# Altium schematic symbol library SparkFun-Electromechanical.SCHLIB: 155 symbols
Pins are listed as number, name and electrical type; pins without a type are passive.

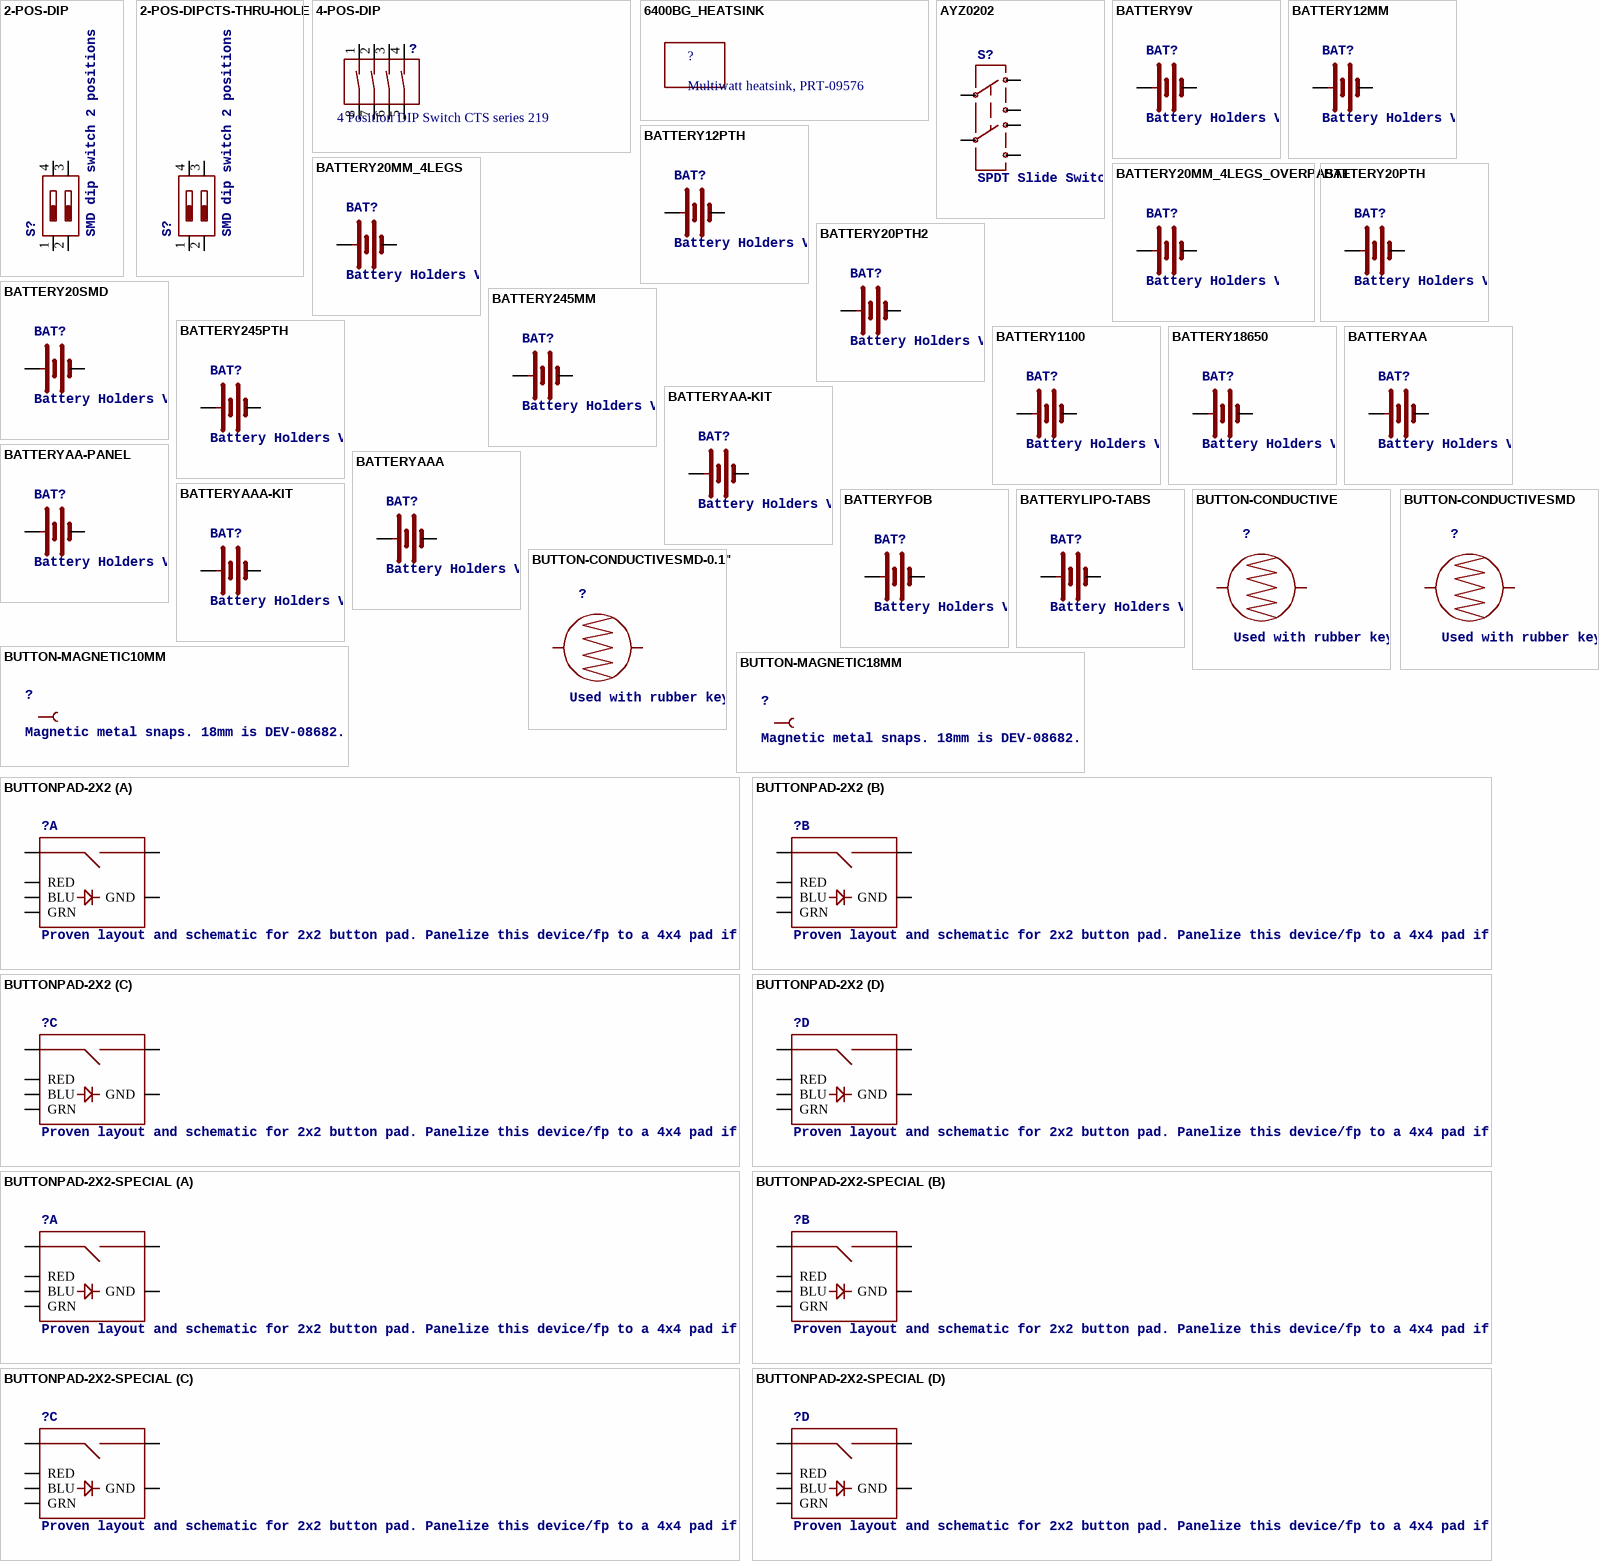
[diagram p0: symbols 2-POS-DIP to BUTTONPAD-2X2-SPECIAL]

## 2-POS-DIP
designator S?, comment SMD dip switch 2 positions
PROD_ID: SWCH-12372
footprint CHS-02A
pins: 1 P$1, 2 P$2, 3 P$3, 4 P$4

## 2-POS-DIPCTS-THRU-HOLE
designator S?, comment SMD dip switch 2 positions
PROD_ID: SWCH-12532
footprint 209-2LPST
pins: 1 P$1, 2 P$2, 3 P$3, 4 P$4

## 4-POS-DIP
designator ?, comment 4 Position DIP Switch CTS series 219
PROD_ID: SWCH-12418
footprint 4-POS-DIP-SMD
pins: 1 1A, 2 2A, 3 3A, 4 4A, 5 4B, 6 3B, 7 2B, 8 1B

## 6400BG_HEATSINK
designator ?, comment Multiwatt heatsink, PRT-09576
footprint 6400BG_HEATSINK

## AYZ0202
designator S?, comment SPDT Slide SwitchSimple SMD single-pull double-throw slide switch. Good for  less than 350mA power switch, switching UARTs between devices, etc. Spark Fun Electronics SKU : COM-00597
PROD_ID: SWCH-08179
footprint AYZ0202
pins: 1 3, 2, 3 1, 4 6, 5, 6 4

## BATTERY9V
designator BAT?, comment Battery Holders Various common sizes : AA, AAA, 18650 (PRT-12895), 20mm coin cell and 12mm coin cell. 20MM_4LEGS, BATT-10373
footprint BATTCON_9V
pins: + (power), - (power)

## BATTERY12MM
designator BAT?, comment Battery Holders Various common sizes : AA, AAA, 18650 (PRT-12895), 20mm coin cell and 12mm coin cell. 20MM_4LEGS, BATT-10373
PROD_ID: BATT-08044
footprint BATTCON_12MM
pins: GND - (power), PWR@1 + (power)

## BATTERY12PTH
designator BAT?, comment Battery Holders Various common sizes : AA, AAA, 18650 (PRT-12895), 20mm coin cell and 12mm coin cell. 20MM_4LEGS, BATT-10373
PROD_ID: BATT-08315
footprint BATTCON_12MM_PTH
pins: GND - (power), VCC@1 + (power)

## BATTERY20MM_4LEGS
designator BAT?, comment Battery Holders Various common sizes : AA, AAA, 18650 (PRT-12895), 20mm coin cell and 12mm coin cell. 20MM_4LEGS, BATT-10373
PROD_ID: BATT-10373
footprint BATTCON_20MM_4LEGS
pins: NEGATIVE - (power), POSITIVE@1 POSITIVE@2 POSITIVE@3 POSITIVE@4 + (power)

## BATTERY20MM_4LEGS_OVERPASTE
designator BAT?, comment Battery Holders Various common sizes : AA, AAA, 18650 (PRT-12895), 20mm coin cell and 12mm coin cell. 20MM_4LEGS, BATT-10373
footprint BATTCON_20MM_4LEGS_OVERPASTE
pins: 1 + (power), 2 - (power)

## BATTERY20PTH
designator BAT?, comment Battery Holders Various common sizes : AA, AAA, 18650 (PRT-12895), 20mm coin cell and 12mm coin cell. 20MM_4LEGS, BATT-10373
footprint BATTCOM_20MM_PTH
pins: 1 + (power), 2 - (power)

## BATTERY20PTH2
designator BAT?, comment Battery Holders Various common sizes : AA, AAA, 18650 (PRT-12895), 20mm coin cell and 12mm coin cell. 20MM_4LEGS, BATT-10373
footprint BATTERY
pins: + (power), - (power)

## BATTERY20SMD
designator BAT?, comment Battery Holders Various common sizes : AA, AAA, 18650 (PRT-12895), 20mm coin cell and 12mm coin cell. 20MM_4LEGS, BATT-10373
footprint BATTCON_20MM
pins: 1 + (power), 2 - (power)

## BATTERY245MM
designator BAT?, comment Battery Holders Various common sizes : AA, AAA, 18650 (PRT-12895), 20mm coin cell and 12mm coin cell. 20MM_4LEGS, BATT-10373
footprint BATTCON_245MM
pins: 1 + (power), 2 - (power)

## BATTERY245PTH
designator BAT?, comment Battery Holders Various common sizes : AA, AAA, 18650 (PRT-12895), 20mm coin cell and 12mm coin cell. 20MM_4LEGS, BATT-10373
footprint BATTCON_245MM_PTH
pins: 2 - (power), 3 + (power)

## BATTERY1100
designator BAT?, comment Battery Holders Various common sizes : AA, AAA, 18650 (PRT-12895), 20mm coin cell and 12mm coin cell. 20MM_4LEGS, BATT-10373
footprint LIPO-1100MAH
pins: + (power), - (power)

## BATTERY18650
designator BAT?, comment Battery Holders Various common sizes : AA, AAA, 18650 (PRT-12895), 20mm coin cell and 12mm coin cell. 20MM_4LEGS, BATT-10373
footprint BATTERY_18650-HOLDER
pins: GND@1 - (power), PWR@1 + (power)

## BATTERYAA
designator BAT?, comment Battery Holders Various common sizes : AA, AAA, 18650 (PRT-12895), 20mm coin cell and 12mm coin cell. 20MM_4LEGS, BATT-10373
footprint BATTERY-AA
pins: GND@1 - (power), PWR@1 + (power)

## BATTERYAA-KIT
designator BAT?, comment Battery Holders Various common sizes : AA, AAA, 18650 (PRT-12895), 20mm coin cell and 12mm coin cell. 20MM_4LEGS, BATT-10373
PROD_ID: BATT-08316
footprint BATTERY-AA-KIT
pins: GND@1 - (power), PWR@1 + (power)

## BATTERYAA-PANEL
designator BAT?, comment Battery Holders Various common sizes : AA, AAA, 18650 (PRT-12895), 20mm coin cell and 12mm coin cell. 20MM_4LEGS, BATT-10373
footprint BATTERY-AA-PANEL
pins: + (power), - (power)

## BATTERYAAA
designator BAT?, comment Battery Holders Various common sizes : AA, AAA, 18650 (PRT-12895), 20mm coin cell and 12mm coin cell. 20MM_4LEGS, BATT-10373
PROD_ID: BATT-08571
footprint BATTERY-AAA
pins: GND@1 - (power), PWR@1 + (power)

## BATTERYAAA-KIT
designator BAT?, comment Battery Holders Various common sizes : AA, AAA, 18650 (PRT-12895), 20mm coin cell and 12mm coin cell. 20MM_4LEGS, BATT-10373
PROD_ID: BATT-08571
footprint BATTERY-AAA-KIT
pins: GND@1 - (power), PWR@1 + (power)

## BATTERYFOB
designator BAT?, comment Battery Holders Various common sizes : AA, AAA, 18650 (PRT-12895), 20mm coin cell and 12mm coin cell. 20MM_4LEGS, BATT-10373
footprint BATTERY_20MM_PTH_COMPACT
pins: 1 + (power), 2 - (power)

## BATTERYLIPO-TABS
designator BAT?, comment Battery Holders Various common sizes : AA, AAA, 18650 (PRT-12895), 20mm coin cell and 12mm coin cell. 20MM_4LEGS, BATT-10373
footprint LIPO-110-TABS
pins: + (power), - (power)

## BUTTON-CONDUCTIVE
designator ?, comment Used with rubber key pads. This one was designed and proven to work with the PolyCase Key FOB enclosures.
footprint BUTTON-CONDUCTIVE-MINI
pins: 1, 2

## BUTTON-CONDUCTIVESMD
designator ?, comment Used with rubber key pads. This one was designed and proven to work with the PolyCase Key FOB enclosures.
footprint BUTTON-CONDUCTIVE
pins: 1, 2

## BUTTON-CONDUCTIVESMD-0.1"
designator ?, comment Used with rubber key pads. This one was designed and proven to work with the PolyCase Key FOB enclosures.
footprint BUTTON-CONDUCTIVE-0.1
pins: 1, 2

## BUTTON-MAGNETIC10MM
designator ?, comment Magnetic metal snaps. 18mm is DEV-08682.
footprint BUTTON-10MM
pins: 1

## BUTTON-MAGNETIC18MM
designator ?, comment Magnetic metal snaps. 18mm is DEV-08682.
footprint BUTTON-18MM
pins: 1

## BUTTONPAD-2X2
designator ?, comment Proven layout and schematic for 2x2 button pad. Panelize this device/fp to a 4x4 pad if needed. Spark Fun Electronics SKU : COM-07835. Compatible common cathode tri-color LED SKU : COM-00105
footprint BUTTONPAD-2X2
part A pins: BLU1 BLU, GND1 GND, GRN1 GRN, RED1 RED, SIG1, SIG2
part B pins: BLU2 BLU, GND2 GND, GRN2 GRN, RED2 RED, SIG3 SIG1, SIG4 SIG2
part C pins: BLU3 BLU, GND3 GND, GRN3 GRN, RED3 RED, SIG5 SIG1, SIG6 SIG2
part D pins: BLU4 BLU, GND4 GND, GRN4 GRN, RED4 RED, SIG7 SIG1, SIG8 SIG2

## BUTTONPAD-2X2-SPECIAL
designator ?, comment Proven layout and schematic for 2x2 button pad. Panelize this device/fp to a 4x4 pad if needed. Spark Fun Electronics SKU : COM-07835. Compatible common cathode tri-color LED SKU : COM-00105
footprint BUTTONPAD-2X2-SPECIAL
part A pins: BLU1 BLU, GND1 GND, GRN1 GRN, RED1 RED, SIG1, SIG2
part B pins: BLU2 BLU, GND2 GND, GRN2 GRN, RED2 RED, SIG3 SIG1, SIG4 SIG2
part C pins: BLU3 BLU, GND3 GND, GRN3 GRN, RED3 RED, SIG5 SIG1, SIG6 SIG2
part D pins: BLU4 BLU, GND4 GND, GRN4 GRN, RED4 RED, SIG7 SIG1, SIG8 SIG2

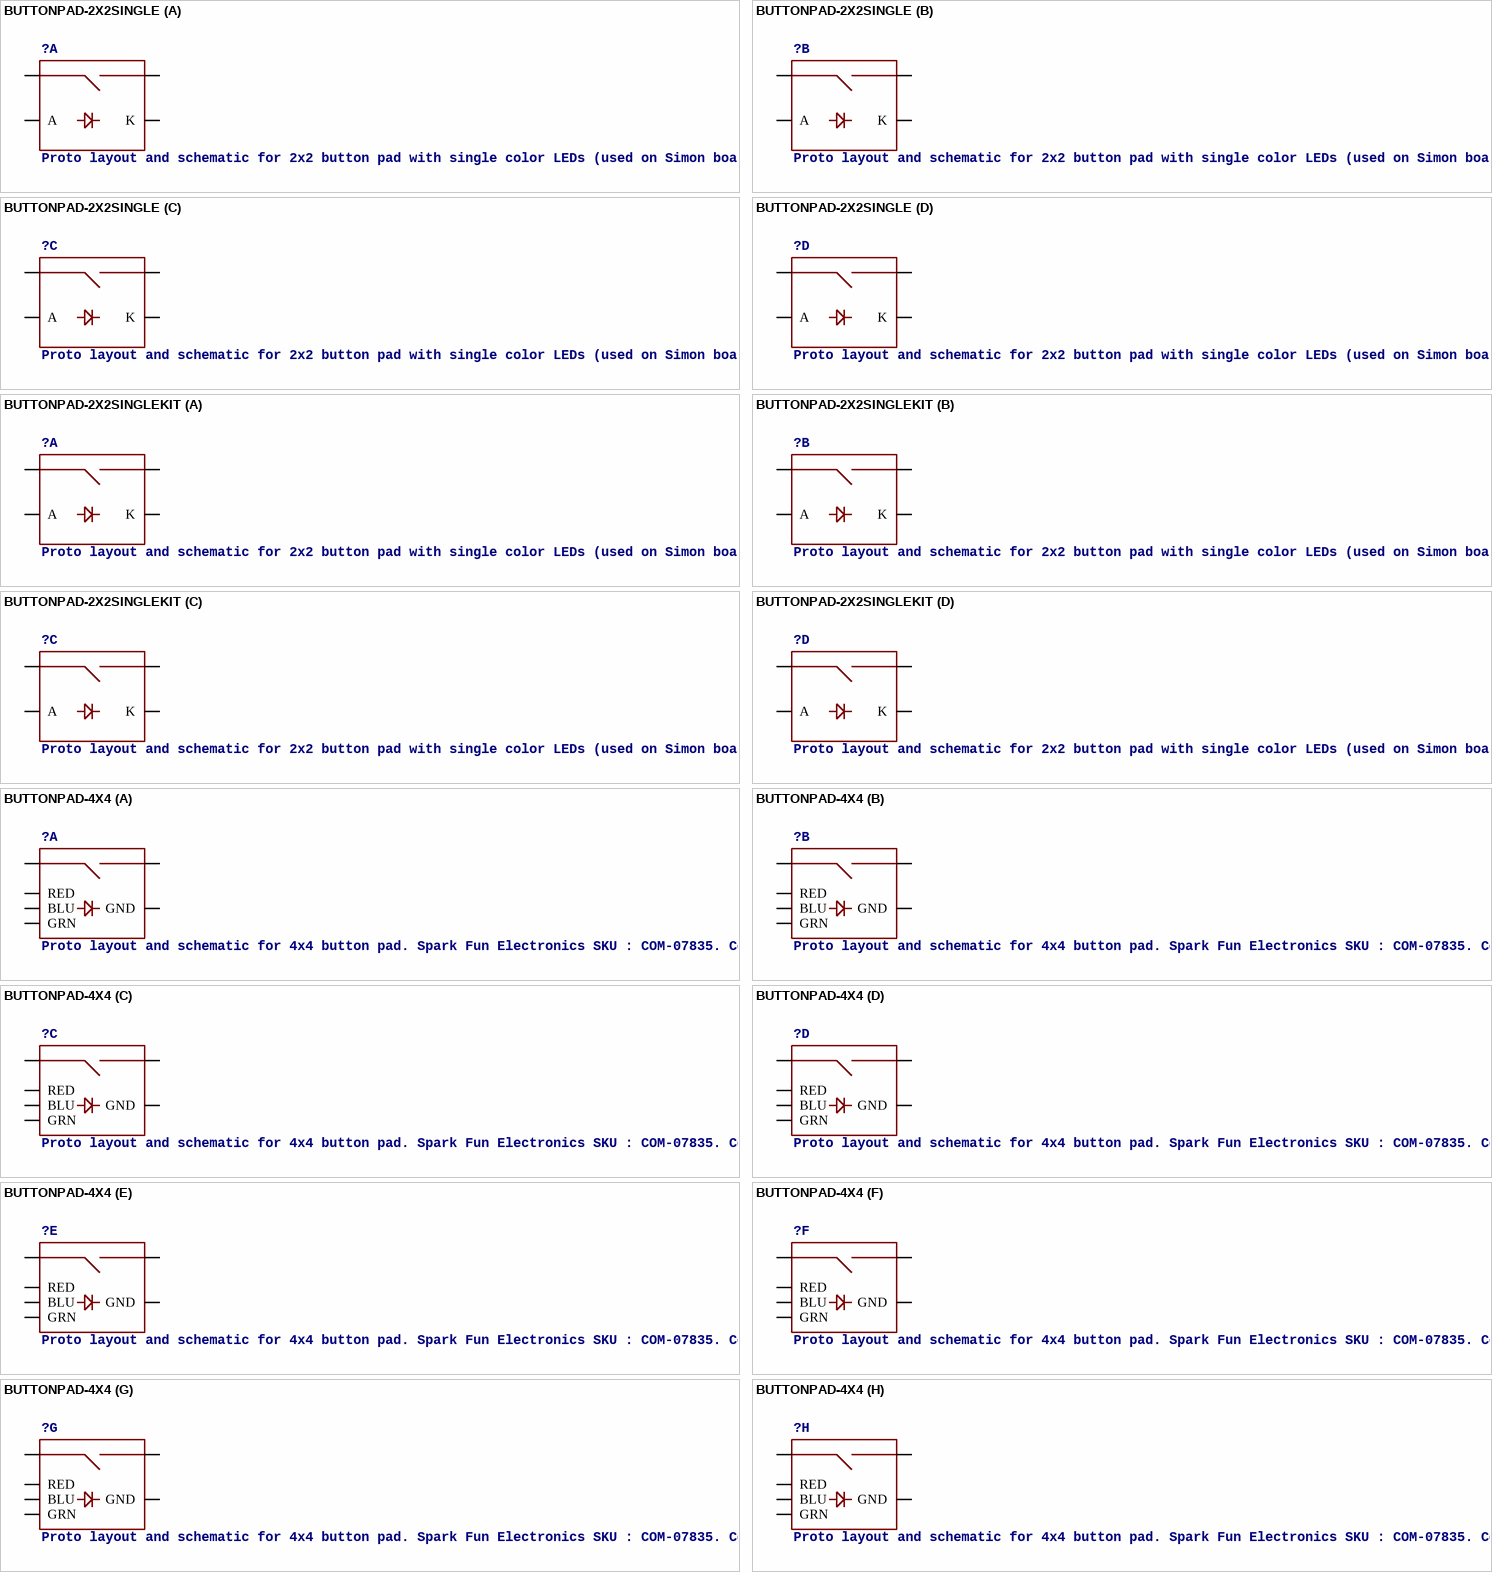
[diagram p1: symbols BUTTONPAD-2X2SINGLE to BUTTONPAD-4X4]

## BUTTONPAD-2X2SINGLE
designator ?, comment Proto layout and schematic for 2x2 button pad with single color LEDs (used on Simon board). Panelize this device/fp to a 4x4 pad if needed. Any single-color 5mm LED should be compatible. Spark Fun Electronics SKU : COM-07835.
footprint BUTTONPAD-2X2SINGLE
part A pins: A1 A, K1 K, SIG1, SIG2
part B pins: A2 A, K2 K, SIG3 SIG1, SIG4 SIG2
part C pins: A3 A, K3 K, SIG5 SIG1, SIG6 SIG2
part D pins: A4 A, K4 K, SIG7 SIG1, SIG8 SIG2

## BUTTONPAD-2X2SINGLEKIT
designator ?, comment Proto layout and schematic for 2x2 button pad with single color LEDs (used on Simon board). Panelize this device/fp to a 4x4 pad if needed. Any single-color 5mm LED should be compatible. Spark Fun Electronics SKU : COM-07835.
footprint BUTTONPAD-2X2SINGLE-KIT
part A pins: A1 A, K1 K, SIG1, SIG2
part B pins: A2 A, K2 K, SIG3 SIG1, SIG4 SIG2
part C pins: A3 A, K3 K, SIG5 SIG1, SIG6 SIG2
part D pins: A4 A, K4 K, SIG7 SIG1, SIG8 SIG2

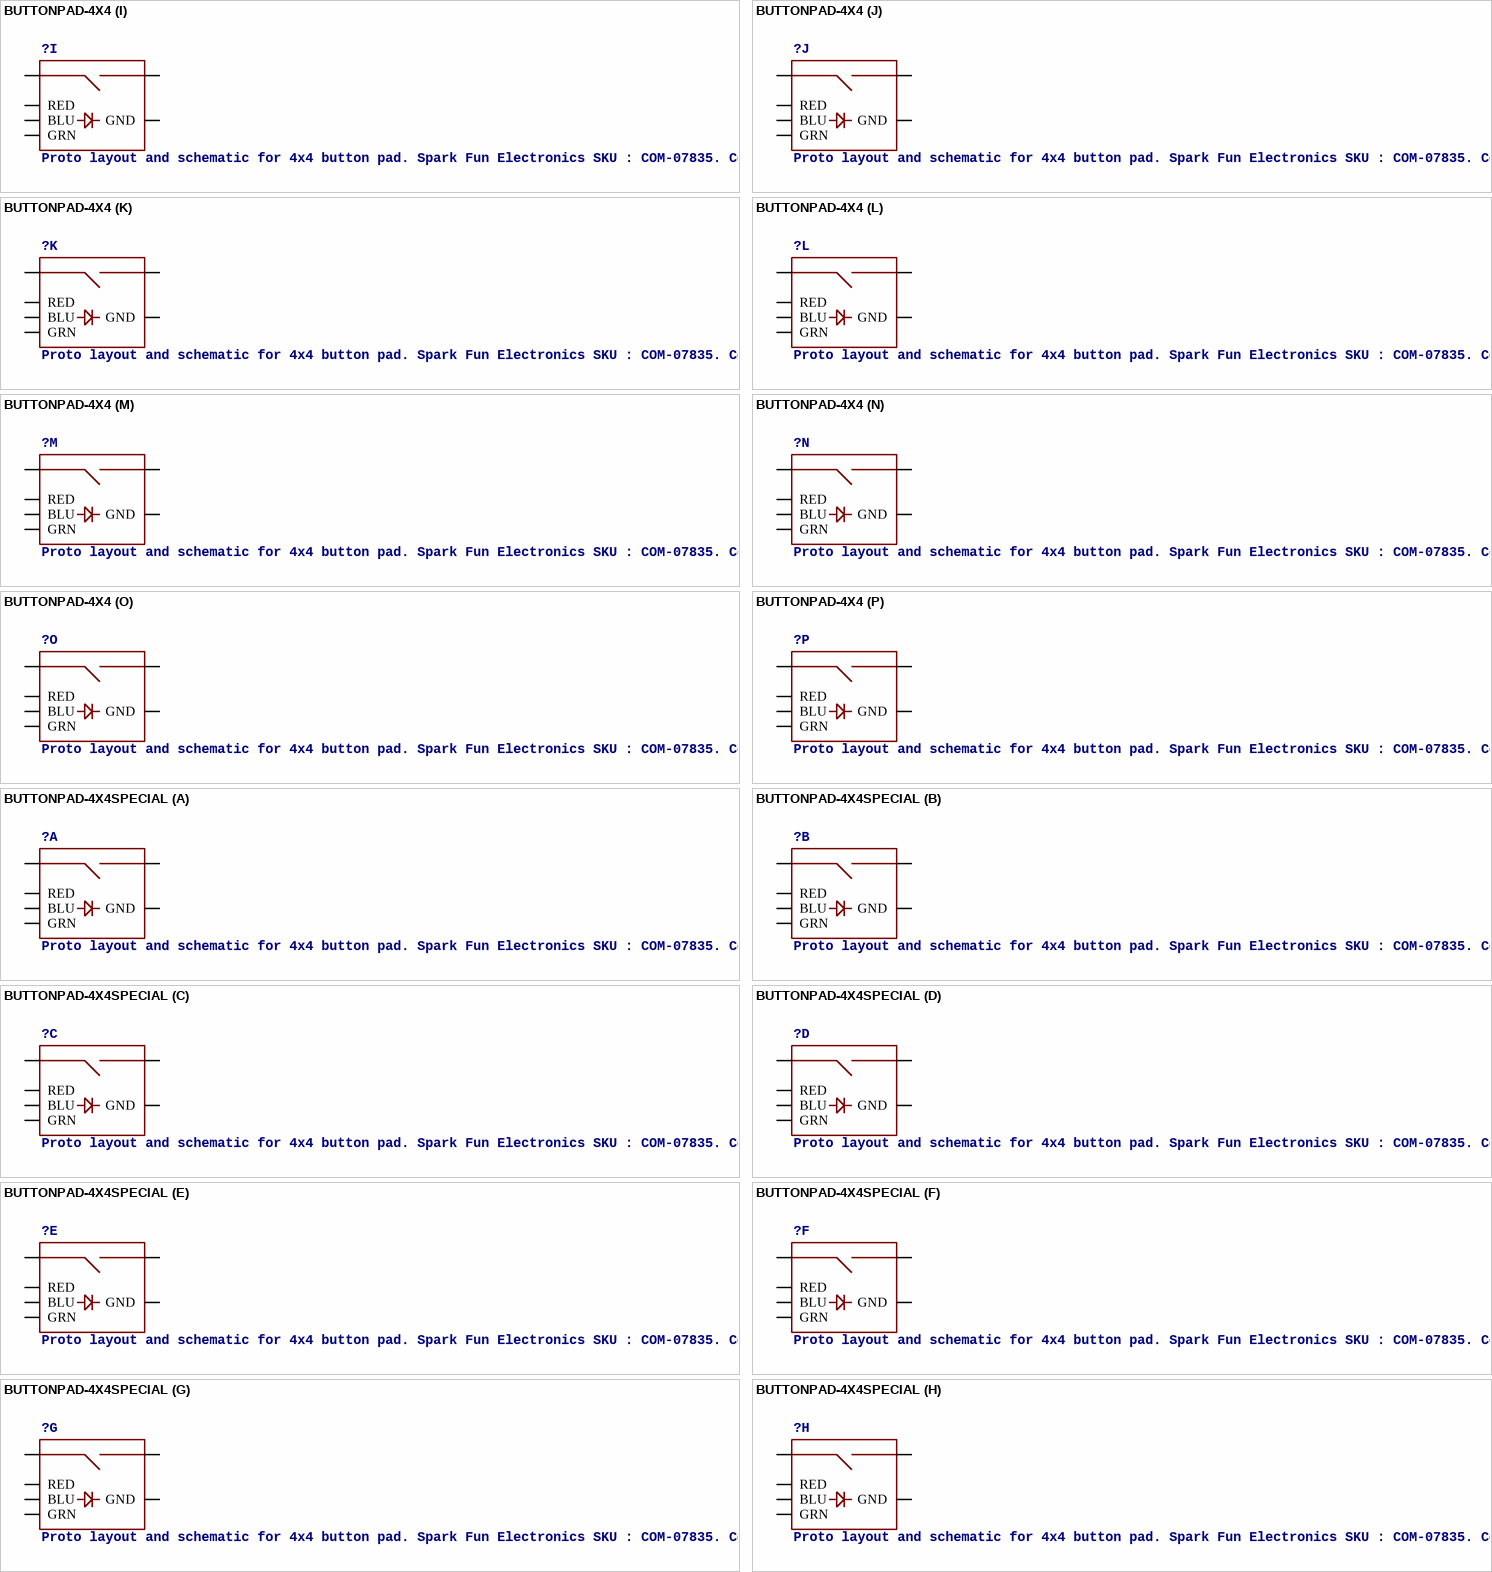
[diagram p2: symbols BUTTONPAD-4X4 to BUTTONPAD-4X4SPECIAL]

## BUTTONPAD-4X4
designator ?, comment Proto layout and schematic for 4x4 button pad. Spark Fun Electronics SKU : COM-07835. Compatible common cathode tri-color LED SKU : COM-00105
footprint BUTTONPAD-4X4
part A pins: BLU0 BLU, GND0 GND, GRN0 GRN, RED0 RED, SIG0 SIG1, SIG1 SIG2
part B pins: BLU1 BLU, GND1 GND, GRN1 GRN, RED1 RED, SIG2 SIG1, SIG3 SIG2
part C pins: BLU2 BLU, GND2 GND, GRN2 GRN, RED2 RED, SIG4 SIG1, SIG5 SIG2
part D pins: BLU3 BLU, GND3 GND, GRN3 GRN, RED3 RED, SIG6 SIG1, SIG7 SIG2
part E pins: BLU4 BLU, GND4 GND, GRN4 GRN, RED4 RED, SIG8 SIG1, SIG9 SIG2
part F pins: BLU5 BLU, GND5 GND, GRN6 GRN, RED5 RED, SIG10 SIG1, SIG11 SIG2
part G pins: BLU6 BLU, GND6 GND, GRN5 GRN, RED6 RED, SIG12 SIG1, SIG13 SIG2
part H pins: BLU7 BLU, GND7 GND, GRN7 GRN, RED7 RED, SIG14 SIG1, SIG15 SIG2
part I pins: BLU8 BLU, GND8 GND, GRN8 GRN, RED8 RED, SIG16 SIG1, SIG17 SIG2
part J pins: BLU9 BLU, GND9 GND, GRN9 GRN, RED9 RED, SIG18 SIG1, SIG19 SIG2
part K pins: BLU10 BLU, GND10 GND, GRN10 GRN, RED10 RED, SIG20 SIG1, SIG21 SIG2
part L pins: BLU11 BLU, GND11 GND, GRN11 GRN, RED11 RED, SIG22 SIG1, SIG23 SIG2
part M pins: BLU12 BLU, GND12 GND, GRN12 GRN, RED12 RED, SIG24 SIG1, SIG25 SIG2
part N pins: BLU13 BLU, GND13 GND, GRN13 GRN, RED13 RED, SIG26 SIG1, SIG27 SIG2
part O pins: BLU14 BLU, GND14 GND, GRN14 GRN, RED14 RED, SIG28 SIG1, SIG29 SIG2
part P pins: BLU15 BLU, GND15 GND, GRN15 GRN, RED15 RED, SIG30 SIG1, SIG31 SIG2

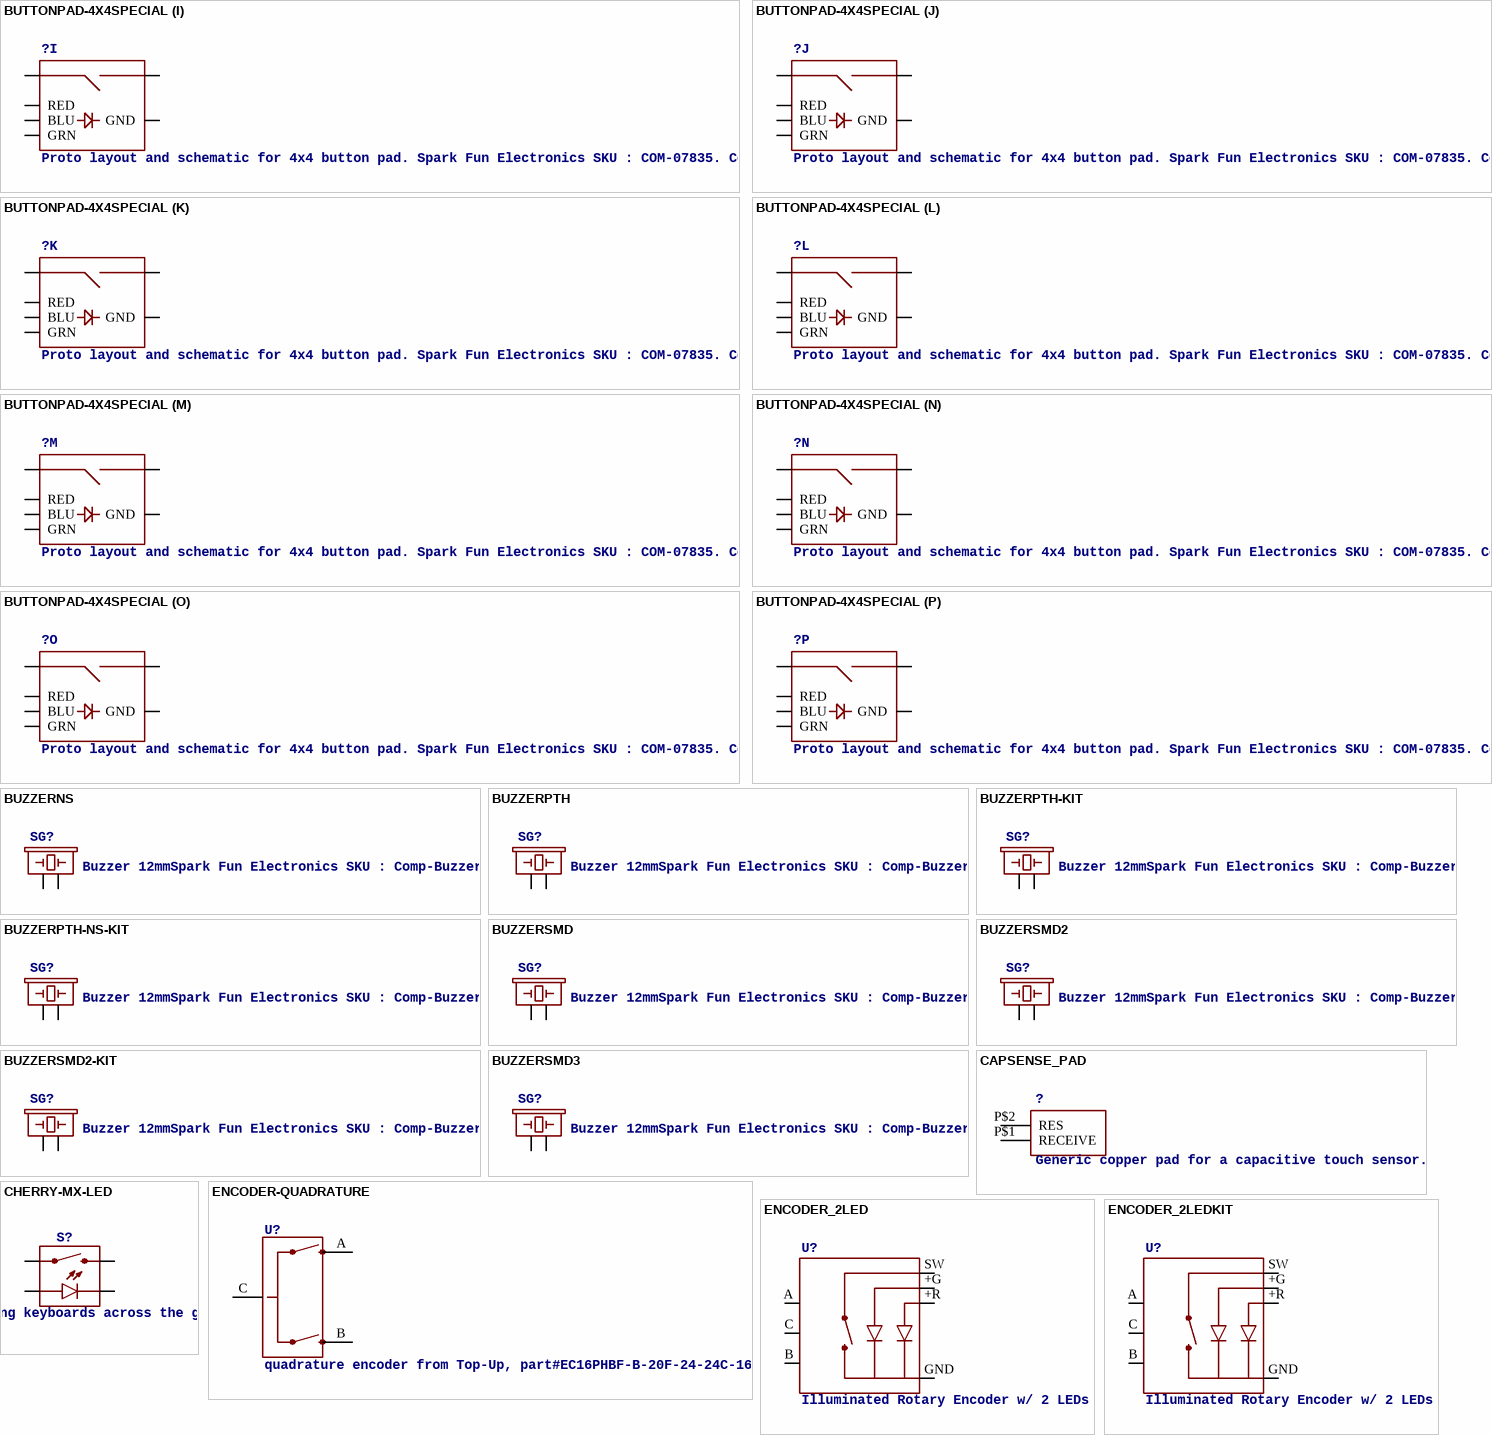
[diagram p3: symbols BUTTONPAD-4X4SPECIAL to ENCODER_2LEDKIT]

## BUTTONPAD-4X4SPECIAL
designator ?, comment Proto layout and schematic for 4x4 button pad. Spark Fun Electronics SKU : COM-07835. Compatible common cathode tri-color LED SKU : COM-00105
footprint BUTTONPAD-4X4-SPECIAL
part A pins: BLU0 BLU, GND0 GND, GRN0 GRN, RED0 RED, SIG0 SIG1, SIG1 SIG2
part B pins: BLU1 BLU, GND1 GND, GRN1 GRN, RED1 RED, SIG2 SIG1, SIG3 SIG2
part C pins: BLU2 BLU, GND2 GND, GRN2 GRN, RED2 RED, SIG4 SIG1, SIG5 SIG2
part D pins: BLU3 BLU, GND3 GND, GRN3 GRN, RED3 RED, SIG6 SIG1, SIG7 SIG2
part E pins: BLU4 BLU, GND4 GND, GRN4 GRN, RED4 RED, SIG8 SIG1, SIG9 SIG2
part F pins: BLU5 BLU, GND5 GND, GRN6 GRN, RED5 RED, SIG10 SIG1, SIG11 SIG2
part G pins: BLU6 BLU, GND6 GND, GRN5 GRN, RED6 RED, SIG12 SIG1, SIG13 SIG2
part H pins: BLU7 BLU, GND7 GND, GRN7 GRN, RED7 RED, SIG14 SIG1, SIG15 SIG2
part I pins: BLU8 BLU, GND8 GND, GRN8 GRN, RED8 RED, SIG16 SIG1, SIG17 SIG2
part J pins: BLU9 BLU, GND9 GND, GRN9 GRN, RED9 RED, SIG18 SIG1, SIG19 SIG2
part K pins: BLU10 BLU, GND10 GND, GRN10 GRN, RED10 RED, SIG20 SIG1, SIG21 SIG2
part L pins: BLU11 BLU, GND11 GND, GRN11 GRN, RED11 RED, SIG22 SIG1, SIG23 SIG2
part M pins: BLU12 BLU, GND12 GND, GRN12 GRN, RED12 RED, SIG24 SIG1, SIG25 SIG2
part N pins: BLU13 BLU, GND13 GND, GRN13 GRN, RED13 RED, SIG26 SIG1, SIG27 SIG2
part O pins: BLU14 BLU, GND14 GND, GRN14 GRN, RED14 RED, SIG28 SIG1, SIG29 SIG2
part P pins: BLU15 BLU, GND15 GND, GRN15 GRN, RED15 RED, SIG30 SIG1, SIG31 SIG2

## BUZZERNS
designator SG?, comment Buzzer 12mmSpark Fun Electronics SKU : Comp-Buzzer
footprint BUZZER-12MM-NS
pins: + 1, - 2

## BUZZERPTH
designator SG?, comment Buzzer 12mmSpark Fun Electronics SKU : Comp-Buzzer
footprint BUZZER-12MM
pins: + 1, - 2

## BUZZERPTH-KIT
designator SG?, comment Buzzer 12mmSpark Fun Electronics SKU : Comp-Buzzer
PROD_ID: COMP-08253
footprint BUZZER-12MM-KIT
pins: + 1, - 2

## BUZZERPTH-NS-KIT
designator SG?, comment Buzzer 12mmSpark Fun Electronics SKU : Comp-Buzzer
PROD_ID: COMP-08253
footprint BUZZER-12MM-NS-KIT
pins: + 1, - 2

## BUZZERSMD
designator SG?, comment Buzzer 12mmSpark Fun Electronics SKU : Comp-Buzzer
footprint BUZZER-CMT1603
pins: P$1 1, P$2 2

## BUZZERSMD2
designator SG?, comment Buzzer 12mmSpark Fun Electronics SKU : Comp-Buzzer
footprint BUZZER-CCV
pins: + 1, - 2

## BUZZERSMD2-KIT
designator SG?, comment Buzzer 12mmSpark Fun Electronics SKU : Comp-Buzzer
footprint BUZZER-CCV-KIT
pins: + 1, - 2

## BUZZERSMD3
designator SG?, comment Buzzer 12mmSpark Fun Electronics SKU : Comp-Buzzer
footprint BUZZER-CMT1102
pins: 1, 2

## CAPSENSE_PAD
designator ?, comment Generic copper pad for a capacitive touch sensor.
footprint CAPSENSE_PAD
pins: P$1 RECEIVE, P$2 RES

## CHERRY-MX-LED
designator S?, comment Cherry MX Switch - Electromechanical Swith w/ LED    Cherry MX Keyswitches are top-of-the-line mechanical keyboard switches. They’re satisfyingly “clicky”, reliable up to tens-of-millions of key presses, and a standard in gaming and programming keyboards across the globe. This ‘blue’ version Cherry MX Switch is favored by most due to its secondary internal actuator making it less likely to “double-tap.” If you are looking for a noticeably audible and high-quality key switch, this is the perfect option for you!   SparkFun Product Link
SF_ID: COM-13834
footprint CHERRY-MX-LED
pins: A, K C, S1, S2

## ENCODER-QUADRATURE
designator U?, comment quadrature encoder from Top-Up, part#EC16PHBF-B-20F-24-24C-16Y
footprint ENCODER-16MM-QUAD
pins: A, B, C

## ENCODER_2LED
designator U?, comment Illuminated Rotary Encoder w/ 2 LEDs
footprint ENCODER_LED_2
pins: +G, +R, A, B, C, GND -, SW

## ENCODER_2LEDKIT
designator U?, comment Illuminated Rotary Encoder w/ 2 LEDs
footprint ENCODER_LED_2_KIT
pins: +G, +R, A, B, C, GND -, SW

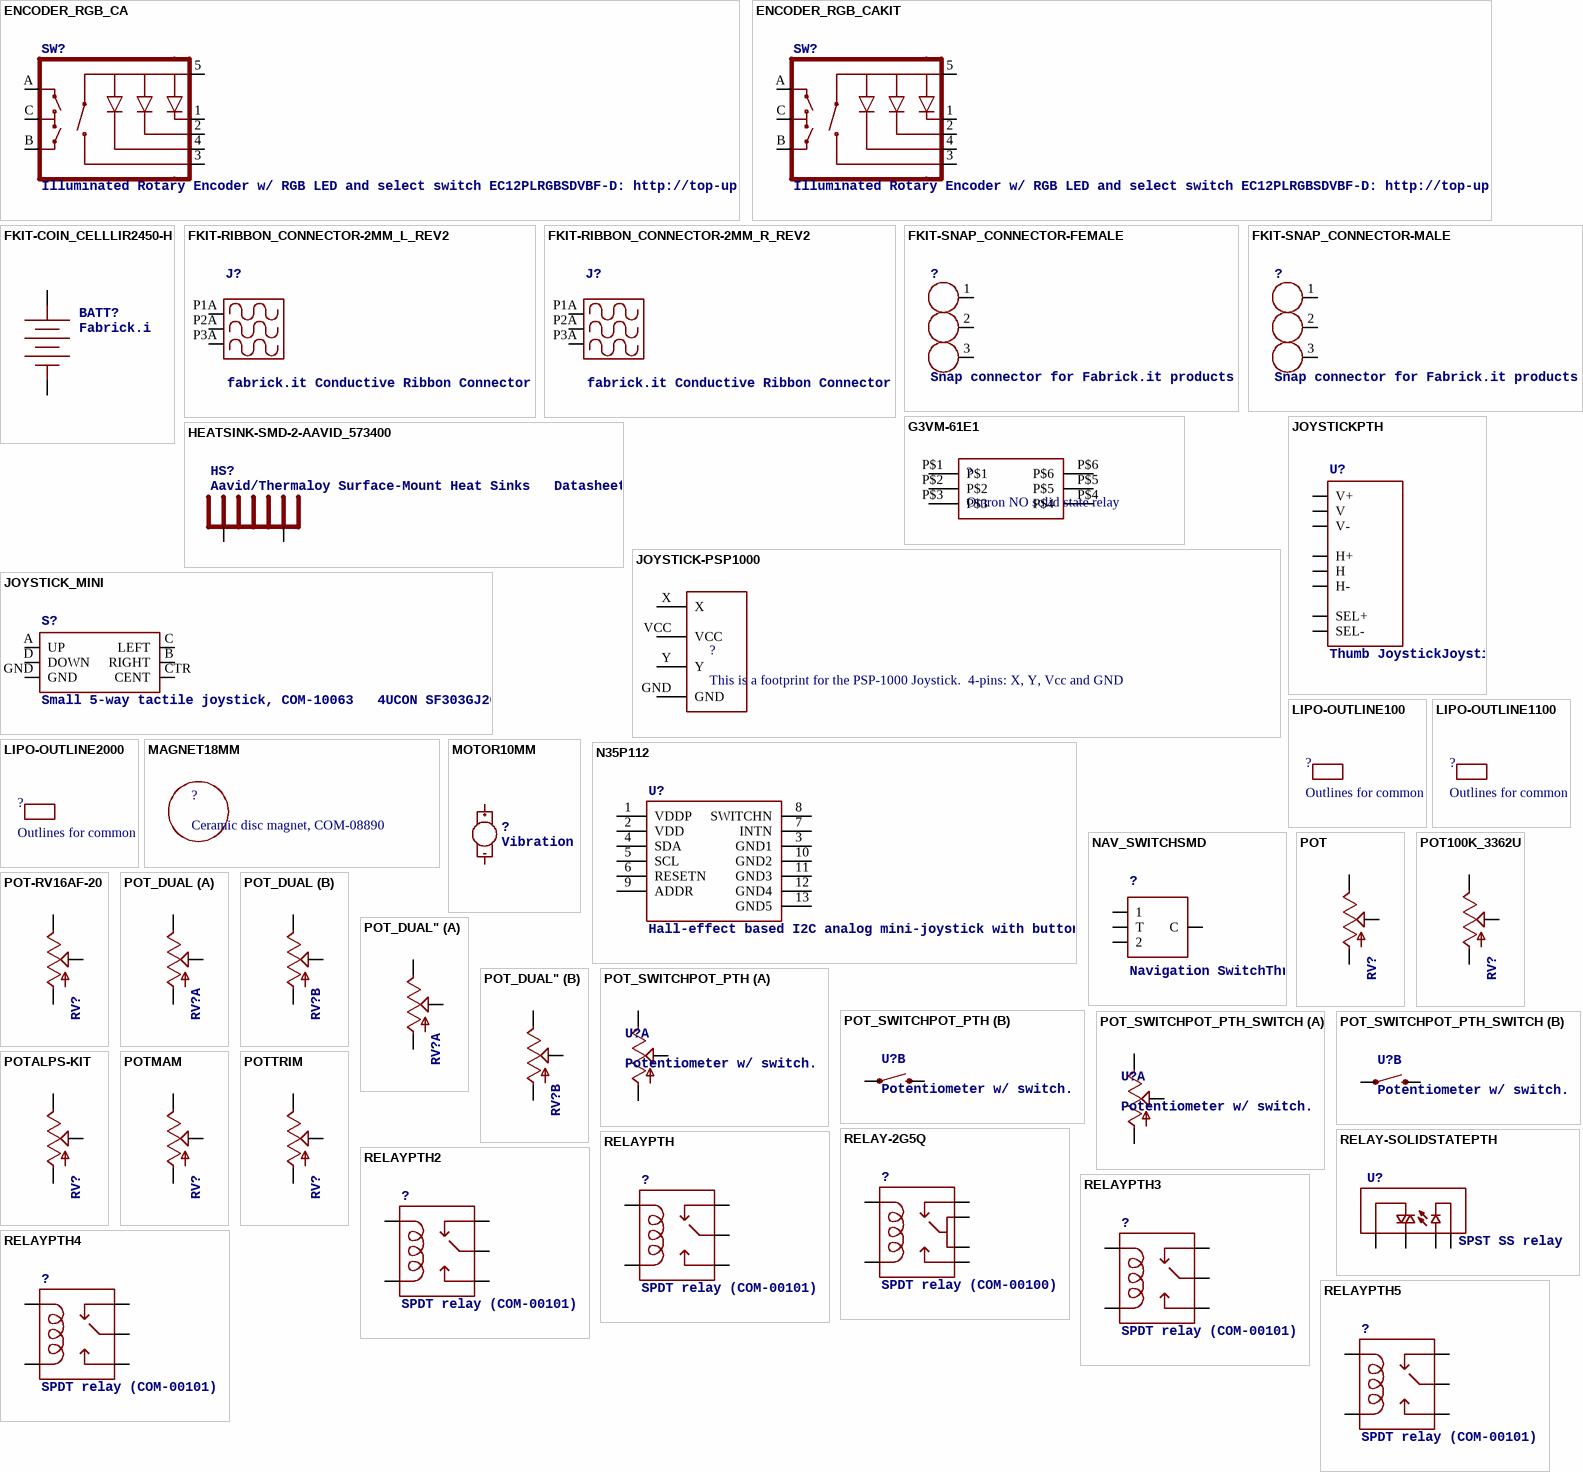
[diagram p4: symbols ENCODER_RGB_CA to RELAYPTH5]

## ENCODER_RGB_CA
designator SW?, comment Illuminated Rotary Encoder w/ RGB LED and select switch EC12PLRGBSDVBF-D: http://top-up.so-buy.com/front/bin/ptdetail.phtml?Part=EC12PLRGBSDVBF-D
footprint ENCODER_LED_3
pins: 1 -R, 2 -G, 3 SW, 4 -B, 5 +, A, B, C

## ENCODER_RGB_CAKIT
designator SW?, comment Illuminated Rotary Encoder w/ RGB LED and select switch EC12PLRGBSDVBF-D: http://top-up.so-buy.com/front/bin/ptdetail.phtml?Part=EC12PLRGBSDVBF-D
footprint ENCODER_LED_3_KIT
pins: 1 -R, 2 -G, 3 SW, 4 -B, 5 +, A, B, C

## FKIT-COIN_CELLLIR2450-H
designator BATT?, comment Fabrick.it Coin Cell Holder Coin cell holder for 24.5mm rechargable coin cell
footprint FKIT-LIR2450-H
pins: NEG, POS

## FKIT-RIBBON_CONNECTOR-2MM_L_REV2
designator J?, comment fabrick.it Conductive Ribbon Connector
footprint FKIT-RIBBON_CONNECTOR_03_2MM_L
pins: P1A P$1, P2A P$2, P3A P$3

## FKIT-RIBBON_CONNECTOR-2MM_R_REV2
designator J?, comment fabrick.it Conductive Ribbon Connector
footprint FKIT-RIBBON_CONNECTOR_03_2MM_R
pins: P1A P$1, P2A P$2, P3A P$3

## FKIT-SNAP_CONNECTOR-FEMALE
designator ?, comment Snap connector for Fabrick.it products
footprint FKIT-SNAP_FEMALE
pins: 1, 2, 3

## FKIT-SNAP_CONNECTOR-MALE
designator ?, comment Snap connector for Fabrick.it products
footprint FKIT-SNAP_MALE
pins: 1, 2, 3

## G3VM-61E1
designator ?, comment Omron NO solid state relay
footprint G3VM-61E1
pins: P$1, P$2, P$3, P$4, P$5, P$6

## HEATSINK-SMD-2-AAVID_573400
designator HS?, comment Aavid/Thermaloy Surface-Mount Heat Sinks   Datasheet
PROD_ID: COMP-12096
footprint AAVID_573400
pins: P$1, P$2

## JOYSTICK-PSP1000
designator ?, comment This is a footprint for the PSP-1000 Joystick.  4-pins: X, Y, Vcc and GND
footprint JOYSTICK-PSP1000
pins: GND, VCC, X, Y

## JOYSTICK_MINI
designator S?, comment Small 5-way tactile joystick, COM-10063   4UCON SF303GJ26
PROD_ID: SWCH-09905
footprint JOYSTICK_MINI
pins: A UP, B RIGHT, C LEFT, CTR CENT, D DOWN, GND

## JOYSTICKPTH
designator U?, comment Thumb JoystickJoystick commonly found in PS2 controllers. Two pots and a select switch. Footprint proven. Spark Fun Electronics SKU : COM-09032
footprint JOYSTICK
pins: B1A SEL+, B2A SEL-, H1 H+, H2 H, H3 H-, V1 V+, V2 V, V3 V-

## LIPO-OUTLINE100
designator ?, comment Outlines for common LiPo batteries sold by SparkFun. For fit only- no pads or connectors!
footprint LIPO-100

## LIPO-OUTLINE1100
designator ?, comment Outlines for common LiPo batteries sold by SparkFun. For fit only- no pads or connectors!
footprint LIPO-1100

## LIPO-OUTLINE2000
designator ?, comment Outlines for common LiPo batteries sold by SparkFun. For fit only- no pads or connectors!
footprint LIPO-2000

## MAGNET18MM
designator ?, comment Ceramic disc magnet, COM-08890
footprint MAGNET-18MM

## MOTOR10MM
designator ?, comment Vibration Motor- ROB-08449Physical dimension and wire connections for this powerful vibration motor. Motor has a self adhesive backing.
footprint VIBE-MOTOR-10MM
pins: +, -

## N35P112
designator U?, comment Hall-effect based I2C analog mini-joystick with button
footprint N35P112
pins: 1 VDDP, 2 VDD, 3 GND1, 4 SDA, 5 SCL, 6 RESETN, 7 INTN, 8 SWITCHN, 9 ADDR, 10 GND2, 11 GND3, 12 GND4, 13 GND5

## NAV_SWITCHSMD
designator ?, comment Navigation SwitchThree way navigation switch. Commonly used as up/down/select on MP3 players. Schematic element and footprint production proven. Spark Fun Electronics SKU : COM-08184
PROD_ID: SWCH-08301
footprint NAV_SWITCH
pins: 1, 2, C (power), T

## POT
designator RV?
PROD_ID: RES-09177
footprint ALPS_POT
pins: P$1 E, P$2 S, P$3 A

## POT100K_3362U
designator RV?
footprint 3362U
pins: P$1 E, P$2 S, P$3 A

## POT-RV16AF-20
designator RV?
footprint POT_ALPHA_RV16AF-20
pins: 1 A, 2 S, 3 E

## POT_DUAL
designator RV?
DIST: digikey; DIST_ID: P2A5103-ND; PROD_ID: RES-11897
footprint POT_PANASONIC_DUAL_VERT_KIT
part A pins: A1 E, A2 S, A3 A
part B pins: B1 E, B2 S, B3 A

## POT_DUAL"
designator RV?
DIST: digikey; DIST_ID: P2A5103-ND; PROD_ID: RES-11897
footprint POT_PANASONIC_DUAL_VERT
part A pins: A1 E, A2 S, A3 A
part B pins: B1 E, B2 S, B3 A

## POT_SWITCHPOT_PTH
designator U?, comment Potentiometer w/ switch.
footprint POT_PTH
part A pins: E@1 A, E@2 E, WAND S
part B pins: S1 1, S2 2

## POT_SWITCHPOT_PTH_SWITCH
designator U?, comment Potentiometer w/ switch.
footprint POT_PTH_SWITCH
part A pins: 1 A, 2 S, 3 E
part B pins: S1 1, S2 2

## POTALPS-KIT
designator RV?
PROD_ID: RES-09177
footprint ALPS_POT_KIT
pins: P$1 E, P$2 S, P$3 A

## POTMAM
designator RV?
footprint POT_MAMMOTH
pins: P$1 S, P$2 A, P$3 E

## POTTRIM
designator RV?
footprint TRIM_POT
pins: 1 S, 2 E, 3 A

## RELAY-2G5Q
designator ?, comment SPDT relay (COM-00100)
footprint RELAY-G5V
pins: 1, 2, 5, 6, 9, 10

## RELAY-SOLIDSTATEPTH
designator U?, comment SPST SS relay
footprint RELAY-S108T02
pins: 1 T1, 2 T2, 3 +, 4 -

## RELAYPTH
designator ?, comment SPDT relay (COM-00101)
footprint RELAY-G5Q
pins: 1 COIL2, 2 MAIN, 3 NO, 4 NC, 5 COIL1

## RELAYPTH2
designator ?, comment SPDT relay (COM-00101)
footprint RELAY-T9A
pins: COIL1, COIL2, MAIN, NC, NO

## RELAYPTH3
designator ?, comment SPDT relay (COM-00101)
footprint RELAY-T9A-2
pins: COIL1, COIL2, MAIN, NC, NO

## RELAYPTH4
designator ?, comment SPDT relay (COM-00101)
footprint RELAY-JZC
pins: 1 COIL2, 2 NC, 3 NO, 4 MAIN, 5 COIL1

## RELAYPTH5
designator ?, comment SPDT relay (COM-00101)
PROD_ID: COMP-10736
footprint RELAY-T90
pins: COIL1, COIL2, MAIN, NC, NO

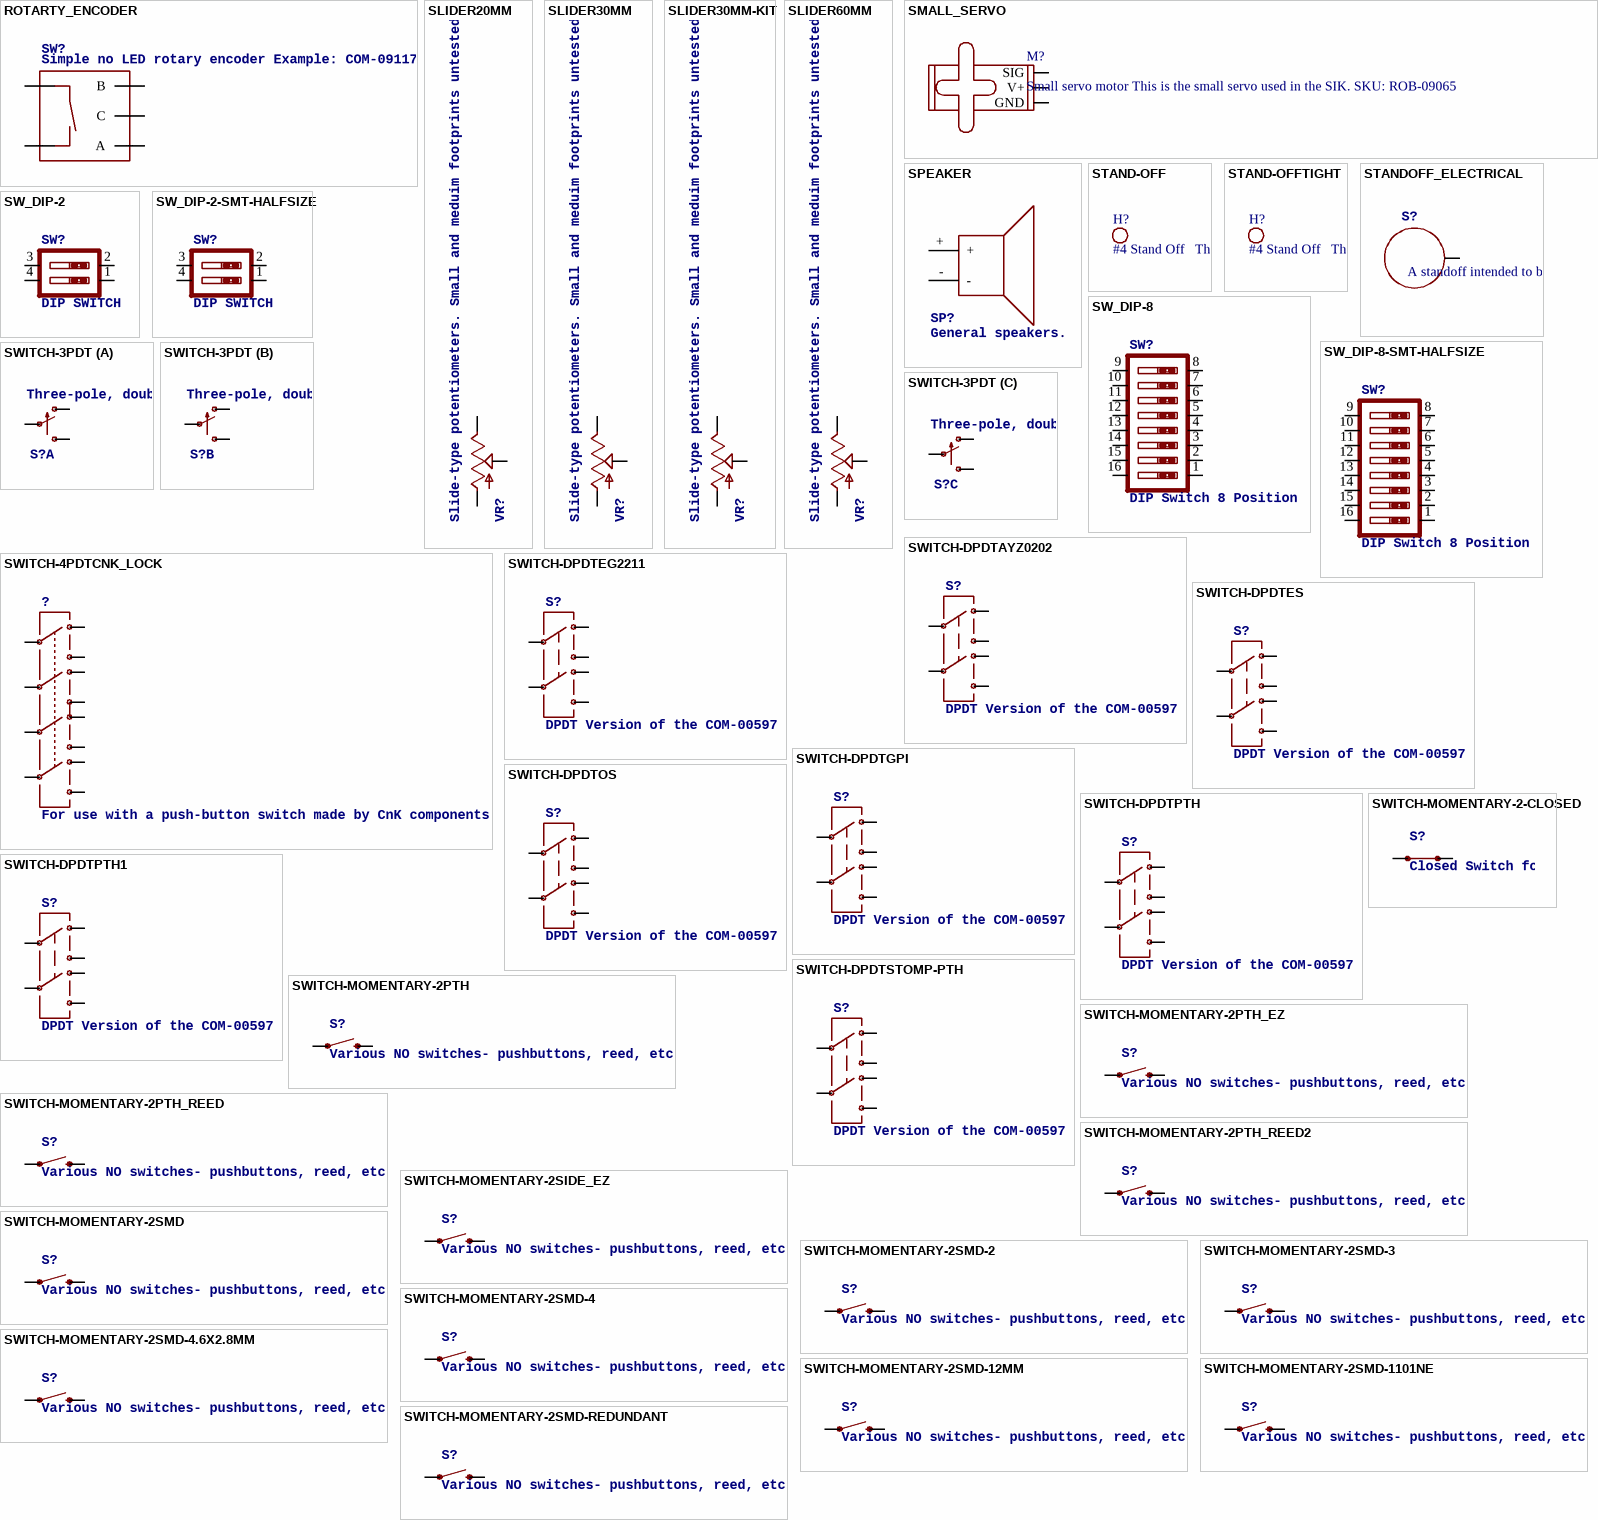
[diagram p5: symbols ROTARTY_ENCODER to SWITCH-MOMENTARY-2SMD-REDUNDANT]

## ROTARTY_ENCODER
designator SW?, comment Simple no LED rotary encoder Example: COM-09117
footprint ROTARY_ENC_PLAIN
pins: A, B, C, SW+, SW-

## SLIDER20MM
designator VR?, comment Slide-type potentiometers. Small and meduim footprints untested.
PROD_ID: COM-11620
footprint SLIDER-SMALL
pins: BOTTOM A, TOP E, WIPER S

## SLIDER30MM
designator VR?, comment Slide-type potentiometers. Small and meduim footprints untested.
PROD_ID: COM-11621
footprint SLIDER-MEDIUM
pins: BOTTOM A, TOP E, WIPER S

## SLIDER30MM-KIT
designator VR?, comment Slide-type potentiometers. Small and meduim footprints untested.
PROD_ID: RES-11931
footprint SLIDER-MEDIUM-KIT
pins: BOTTOM A, TOP E, WIPER S

## SLIDER60MM
designator VR?, comment Slide-type potentiometers. Small and meduim footprints untested.
PROD_ID: RES-09484
footprint SLIDER
pins: 1 E, 2A S, 3 A

## SMALL_SERVO
designator M?, comment Small servo motor This is the small servo used in the SIK. SKU: ROB-09065
footprint 1X03
pins: 1 SIG, 2 V+, 3 GND

## SPEAKER
designator SP?, comment General speakers.
MFG: SANCO; PROD_#: NA; SPARKLE_ID: 6504; SKU: COM-11089
footprint PCB_MOUNT_SPEAKER
pins: +, -

## STAND-OFF
designator H?, comment #4 Stand Off   This is the mechanical footprint for a #4 phillips button head screw. Use the keepout ring to avoid running the screw head into surrounding components. SKU : PRT-00447
footprint STAND-OFF

## STAND-OFFTIGHT
designator H?, comment #4 Stand Off   This is the mechanical footprint for a #4 phillips button head screw. Use the keepout ring to avoid running the screw head into surrounding components. SKU : PRT-00447
footprint STAND-OFF-TIGHT

## STANDOFF_ELECTRICAL
designator S?, comment A standoff intended to be an electrically connected point. Pad size and stop size allow for a #4 Phillips pan screw head to make a solid connection to the board.
footprint STANDOFF-ELECTRICAL
pins: P1 P$1

## SW_DIP-2
designator SW?, comment DIP SWITCH
footprint DIPSWITCH-02
pins: 1, 2, 3, 4

## SW_DIP-2-SMT-HALFSIZE
designator SW?, comment DIP SWITCH
footprint DIPSWITCH-02-50MIL
pins: 1, 2, 3, 4

## SW_DIP-8
designator SW?, comment DIP Switch 8 Position
footprint DIPSWITCH-08
pins: 1, 2, 3, 4, 5, 6, 7, 8, 9, 10, 11, 12, 13, 14, 15, 16

## SW_DIP-8-SMT-HALFSIZE
designator SW?, comment DIP Switch 8 Position
footprint DIPSWITCH-08-50MIL
pins: 1, 2, 3, 4, 5, 6, 7, 8, 9, 10, 11, 12, 13, 14, 15, 16

## SWITCH-3PDT
designator S?, comment Three-pole, double-throw stomp switch.   Drawn as three separate gates for schematic clarity.
PROD_ID: SWCH-13197
footprint STOMP-SWITCH-3PDT
part A pins: P$1 O, P$2 P, P$3 S
part B pins: P$4 O, P$5 P, P$6 S
part C pins: P$7 O, P$8 P, P$9 S

## SWITCH-4PDTCNK_LOCK
designator ?, comment For use with a push-button switch made by CnK components.
footprint SWITCH-4PDT-CNK
pins: PP$1 1, PP$2 2, PP$3 3, PP$4 4, PP$5 5, PP$6 6, PP$7 7, PP$8 8, PP$9 9, PP$10 10, PP$11 11, PP$12 12

## SWITCH-DPDTAYZ0202
designator S?, comment DPDT Version of the COM-00597
PROD_ID: SWCH-08179
footprint AYZ0202
pins: 1, 2, 3, 4, 5, 6

## SWITCH-DPDTEG2211
designator S?, comment DPDT Version of the COM-00597
footprint EG2211
pins: P1 2, P1-TA 1, P1-TB 3, P2 5, P2-TA 4, P2-TB 6

## SWITCH-DPDTES
designator S?, comment DPDT Version of the COM-00597
footprint ES
pins: 1, 2, 3, 4, 5, 6

## SWITCH-DPDTGPI
designator S?, comment DPDT Version of the COM-00597
footprint GPI-152-3013
pins: 10 1, 11 4, 20 3, 21 6, C@1 2, C@2 5

## SWITCH-DPDTOS
designator S?, comment DPDT Version of the COM-00597
footprint OS
pins: 1, 2, 3, 4, 5, 6

## SWITCH-DPDTPTH
designator S?, comment DPDT Version of the COM-00597
footprint MSS22
pins: 1, 2, 3, 4, 5, 6

## SWITCH-DPDTPTH1
designator S?, comment DPDT Version of the COM-00597
footprint MS
pins: 1, 2, 3, 4, 5, 6

## SWITCH-DPDTSTOMP-PTH
designator S?, comment DPDT Version of the COM-00597
footprint STOMP-SWITCH-DPDT
pins: P$1 1, P$2 2, P$3 3, P$4 4, P$5 5, P$6 6

## SWITCH-MOMENTARY-2-CLOSED
designator S?, comment Closed Switch for tutorial schematics.  Not intended for PCB design. Maps to 12mm tact switch, only because eagle won't place a part with no package defined. The ordinary SWITCH-MOMENTARY-2 is likely to be more useful for regular schematics.
footprint TACTILE-PTH-12MM
pins: 1, 3 2

## SWITCH-MOMENTARY-2PTH
designator S?, comment Various NO switches- pushbuttons, reed, etc
PROD_ID: SWCH-08441
footprint TACTILE-PTH
pins: 1, 3 2

## SWITCH-MOMENTARY-2PTH_EZ
designator S?, comment Various NO switches- pushbuttons, reed, etc
footprint TACTILE-PTH-EZ
pins: 1, 3 2

## SWITCH-MOMENTARY-2PTH_REED
designator S?, comment Various NO switches- pushbuttons, reed, etc
footprint REED_SWITCH_PTH
pins: P$1 1, P$2 2

## SWITCH-MOMENTARY-2PTH_REED2
designator S?, comment Various NO switches- pushbuttons, reed, etc
PROD_ID: SWCH-10467
footprint REED_SWITCH_PLASTIC
pins: P$1 1, P$2 2

## SWITCH-MOMENTARY-2SIDE_EZ
designator S?, comment Various NO switches- pushbuttons, reed, etc
footprint TACTILE-PTH-SIDEEZ
pins: 1, 2

## SWITCH-MOMENTARY-2SMD
designator S?, comment Various NO switches- pushbuttons, reed, etc
PROD_ID: SWCH-08247
footprint TACTILE-SWITCH-SMD
pins: 1, 3 2

## SWITCH-MOMENTARY-2SMD-2
designator S?, comment Various NO switches- pushbuttons, reed, etc
PROD_ID: SWCH-09213
footprint TACTILE_SWITCH_SMD-2
pins: 1 2, 2 1

## SWITCH-MOMENTARY-2SMD-3
designator S?, comment Various NO switches- pushbuttons, reed, etc
footprint TACTILE_SWITCH_SMD-3
pins: 1, 4 2

## SWITCH-MOMENTARY-2SMD-4
designator S?, comment Various NO switches- pushbuttons, reed, etc
PROD_ID: SWCH-11966
footprint TACTILE_SWITCH_TALL
pins: A2 1, B2 2

## SWITCH-MOMENTARY-2SMD-4.6X2.8MM
designator S?, comment Various NO switches- pushbuttons, reed, etc
PROD_ID: SWCH-13065
footprint TACTILE_SWITCH_SMD_4.6X2.8MM
pins: 1 2 1, 3 4 2

## SWITCH-MOMENTARY-2SMD-12MM
designator S?, comment Various NO switches- pushbuttons, reed, etc
footprint TACTILE-SMD-12MM
pins: 1, 3 2

## SWITCH-MOMENTARY-2SMD-1101NE
designator S?, comment Various NO switches- pushbuttons, reed, etc
PROD_ID: SWCH-00815
footprint TACTILE-SWITCH-1101NE
pins: 1, 2

## SWITCH-MOMENTARY-2SMD-REDUNDANT
designator S?, comment Various NO switches- pushbuttons, reed, etc
PROD_ID: SWCH-08247
footprint TACTILE-SWITCH-SMD
pins: 1 2 1, 3 4 2

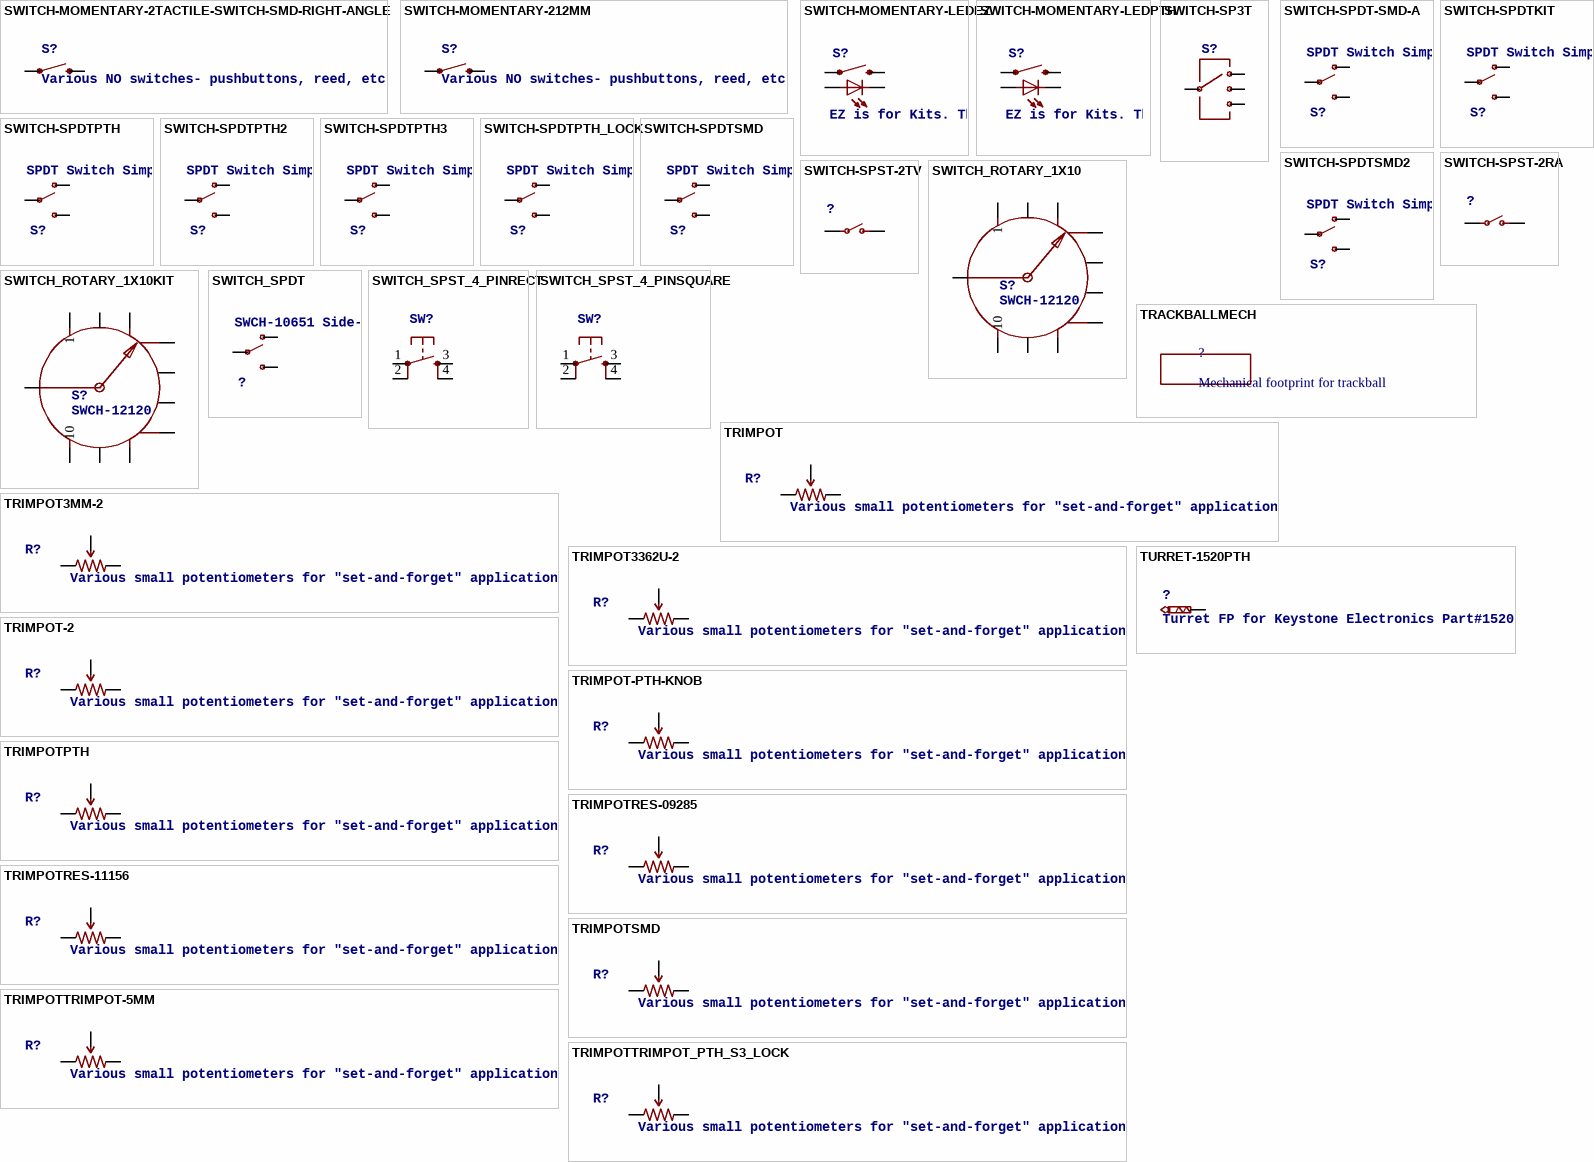
[diagram p6: symbols SWITCH-MOMENTARY-2TACTILE-SWITCH-SMD-RIGHT-ANGLE to TURRET-1520PTH]

## SWITCH-MOMENTARY-2TACTILE-SWITCH-SMD-RIGHT-ANGLE
designator S?, comment Various NO switches- pushbuttons, reed, etc
PROD_ID: COMP-12265
footprint TACTILE_SWITCH-SMD-RIGHT-ANGLE
pins: 1, 2

## SWITCH-MOMENTARY-212MM
designator S?, comment Various NO switches- pushbuttons, reed, etc
PROD_ID: SWCH-09185
footprint TACTILE-PTH-12MM
pins: 1, 3 2

## SWITCH-MOMENTARY-LEDEZ
designator S?, comment EZ is for Kits. There is no tStop (covering up the top side of the pads with mask). This helps the beginner see which side they should be soldering too.
footprint TACTILE-PTH-LED-12MM-EZ
pins: 2, 4 1, A, C

## SWITCH-MOMENTARY-LEDPTH
designator S?, comment EZ is for Kits. There is no tStop (covering up the top side of the pads with mask). This helps the beginner see which side they should be soldering too.
footprint TACTILE-PTH-LED-12MM
pins: 2, 4 1, A, C

## SWITCH-SP3T
designator S?
footprint SWITCH-SP3T-SMD
pins: 1, 2, 3, 4

## SWITCH-SPDT-SMD-A
designator S?, comment SPDT Switch Simple slide switch, Spark Fun Electronics SKU : COM-00102 DPDT SMT slide switch, AYZ0202, SWCH-08179
PROD_ID: SWCH-10651
footprint SWITCH-SPST-SMD-A
pins: 1 O, 2 P, 3 S

## SWITCH-SPDTKIT
designator S?, comment SPDT Switch Simple slide switch, Spark Fun Electronics SKU : COM-00102 DPDT SMT slide switch, AYZ0202, SWCH-08179
PROD_ID: SWCH-08261
footprint SWITCH-SPDT_KIT
pins: 1 O, 2 P, 3 S

## SWITCH-SPDTPTH
designator S?, comment SPDT Switch Simple slide switch, Spark Fun Electronics SKU : COM-00102 DPDT SMT slide switch, AYZ0202, SWCH-08179
PROD_ID: SWCH-08261
footprint SWITCH-SPDT
pins: 1 O, 2 P, 3 S

## SWITCH-SPDTPTH2
designator S?, comment SPDT Switch Simple slide switch, Spark Fun Electronics SKU : COM-00102 DPDT SMT slide switch, AYZ0202, SWCH-08179
footprint SWITCHE-DPDT
pins: 1 O, 2 P, 3 S

## SWITCH-SPDTPTH3
designator S?, comment SPDT Switch Simple slide switch, Spark Fun Electronics SKU : COM-00102 DPDT SMT slide switch, AYZ0202, SWCH-08179
footprint R_SW_TH
pins: P$1 O, P$2 P, P$3 S

## SWITCH-SPDTPTH_LOCK
designator S?, comment SPDT Switch Simple slide switch, Spark Fun Electronics SKU : COM-00102 DPDT SMT slide switch, AYZ0202, SWCH-08179
footprint SWITCH-SPDT_LOCK.007S
pins: 1 O, 2 P, 3 S

## SWITCH-SPDTSMD
designator S?, comment SPDT Switch Simple slide switch, Spark Fun Electronics SKU : COM-00102 DPDT SMT slide switch, AYZ0202, SWCH-08179
SF_ID: COM-00597; PROD_ID: SWCH-08179
footprint AYZ0202
pins: 1 O, 2 P, 3 S

## SWITCH-SPDTSMD2
designator S?, comment SPDT Switch Simple slide switch, Spark Fun Electronics SKU : COM-00102 DPDT SMT slide switch, AYZ0202, SWCH-08179
footprint SWITCH-SPDT-SMD
pins: 1 O, 2 P, 3 S

## SWITCH-SPST-2RA
designator ?
footprint R_SW_TH
pins: P$3 O, P$4 P

## SWITCH-SPST-2TV
designator ?
footprint SWITCH-SPST-VERTICAL
pins: 1 O, 2 P

## SWITCH_ROTARY_1X10
designator S?, comment SWCH-12120
PROD_ID: SWCH-12120
footprint ROTARY_SWITCH_1X10
pins: 1, 2, 3, 4, 5, 6, 7, 8, 9, 10, COMMON

## SWITCH_ROTARY_1X10KIT
designator S?, comment SWCH-12120
PROD_ID: SWCH-12120
footprint ROTARY_SWITCH_1X10_KIT
pins: 1, 2, 3, 4, 5, 6, 7, 8, 9, 10, COMMON

## SWITCH_SPDT
designator ?, comment SWCH-10651 Side-actuated SPDT slide switch, as used on the Arduino Pro
PROD_ID: SWCH-10651
footprint KPS-1290
pins: O, P, S

## SWITCH_SPST_4_PINRECT
designator SW?
PROD_ID: SWCH-13065
footprint TACTILE_SWITCH_SMD_4.6X2.8MM
pins: 1, 2, 3, 4

## SWITCH_SPST_4_PINSQUARE
designator SW?
PROD_ID: SWCH-08247
footprint TACTILE-SWITCH-SMD
pins: 1, 2, 3, 4

## TRACKBALLMECH
designator ?, comment Mechanical footprint for trackball
PROD_ID: COMP-09237
footprint TRACKBALL

## TRIMPOT
designator R?, comment Various small potentiometers for "set-and-forget" applications
footprint TRIMPOT-5MM-V2
pins: A CCW, B WIPER, C CW

## TRIMPOT3MM-2
designator R?, comment Various small potentiometers for "set-and-forget" applications
PROD_ID: RES-08048
footprint TRIMPOT-3MM-2
pins: 1 CCW, 2 WIPER, 3 CW

## TRIMPOT3362U-2
designator R?, comment Various small potentiometers for "set-and-forget" applications
footprint 3362U-2
pins: 1 CCW, 2 WIPER, 3 CW

## TRIMPOT-2
designator R?, comment Various small potentiometers for "set-and-forget" applications
footprint TRIMPOT_TC33
pins: 1 CCW, 2 WIPER, 3 CW

## TRIMPOT-PTH-KNOB
designator R?, comment Various small potentiometers for "set-and-forget" applications
PROD_ID: RES-09730
footprint 3386U
pins: 1 CCW, 2 WIPER, 3 CW

## TRIMPOTPTH
designator R?, comment Various small potentiometers for "set-and-forget" applications
footprint TRIM_POT_PTH
pins: 1 CCW, 2 WIPER, 3 CW

## TRIMPOTRES-09285
designator R?, comment Various small potentiometers for "set-and-forget" applications
PROD_ID: RES-09285
footprint TRIMPOT-3MM
pins: 1 CCW, 2 WIPER, 3 CW

## TRIMPOTRES-11156
designator R?, comment Various small potentiometers for "set-and-forget" applications
PROD_ID: RES-11156
footprint TRIMPOT_5MM
pins: A CCW, B WIPER, C CW

## TRIMPOTSMD
designator R?, comment Various small potentiometers for "set-and-forget" applications
footprint TRIMPOT-3MM
pins: 1 CCW, 2 WIPER, 3 CW

## TRIMPOTTRIMPOT-5MM
designator R?, comment Various small potentiometers for "set-and-forget" applications
footprint TRIMPOT-5MM
pins: A CCW, B WIPER, C CW

## TRIMPOTTRIMPOT_PTH_S3_LOCK
designator R?, comment Various small potentiometers for "set-and-forget" applications
footprint TRIMPOT_PTH_S3_LOCK
pins: 1 CCW, 2 WIPER, 3 CW

## TURRET-1520PTH
designator ?, comment Turret FP for Keystone Electronics Part#1520
footprint 1X01_TURRET
pins: 1